# Altium footprint library PcbLib1.PcbLib: 44 footprints (part 2 of 3)
Each footprint in its own frame and in the unit in brackets; x right, y up, seen from the top. Pads: shape width x height; smd on the part's side, far side on the other; paste and mask are expansions set on the pad; w line width, h text height; cw(c..) or ccw(c..) is an arc to the next point about the centre after c.
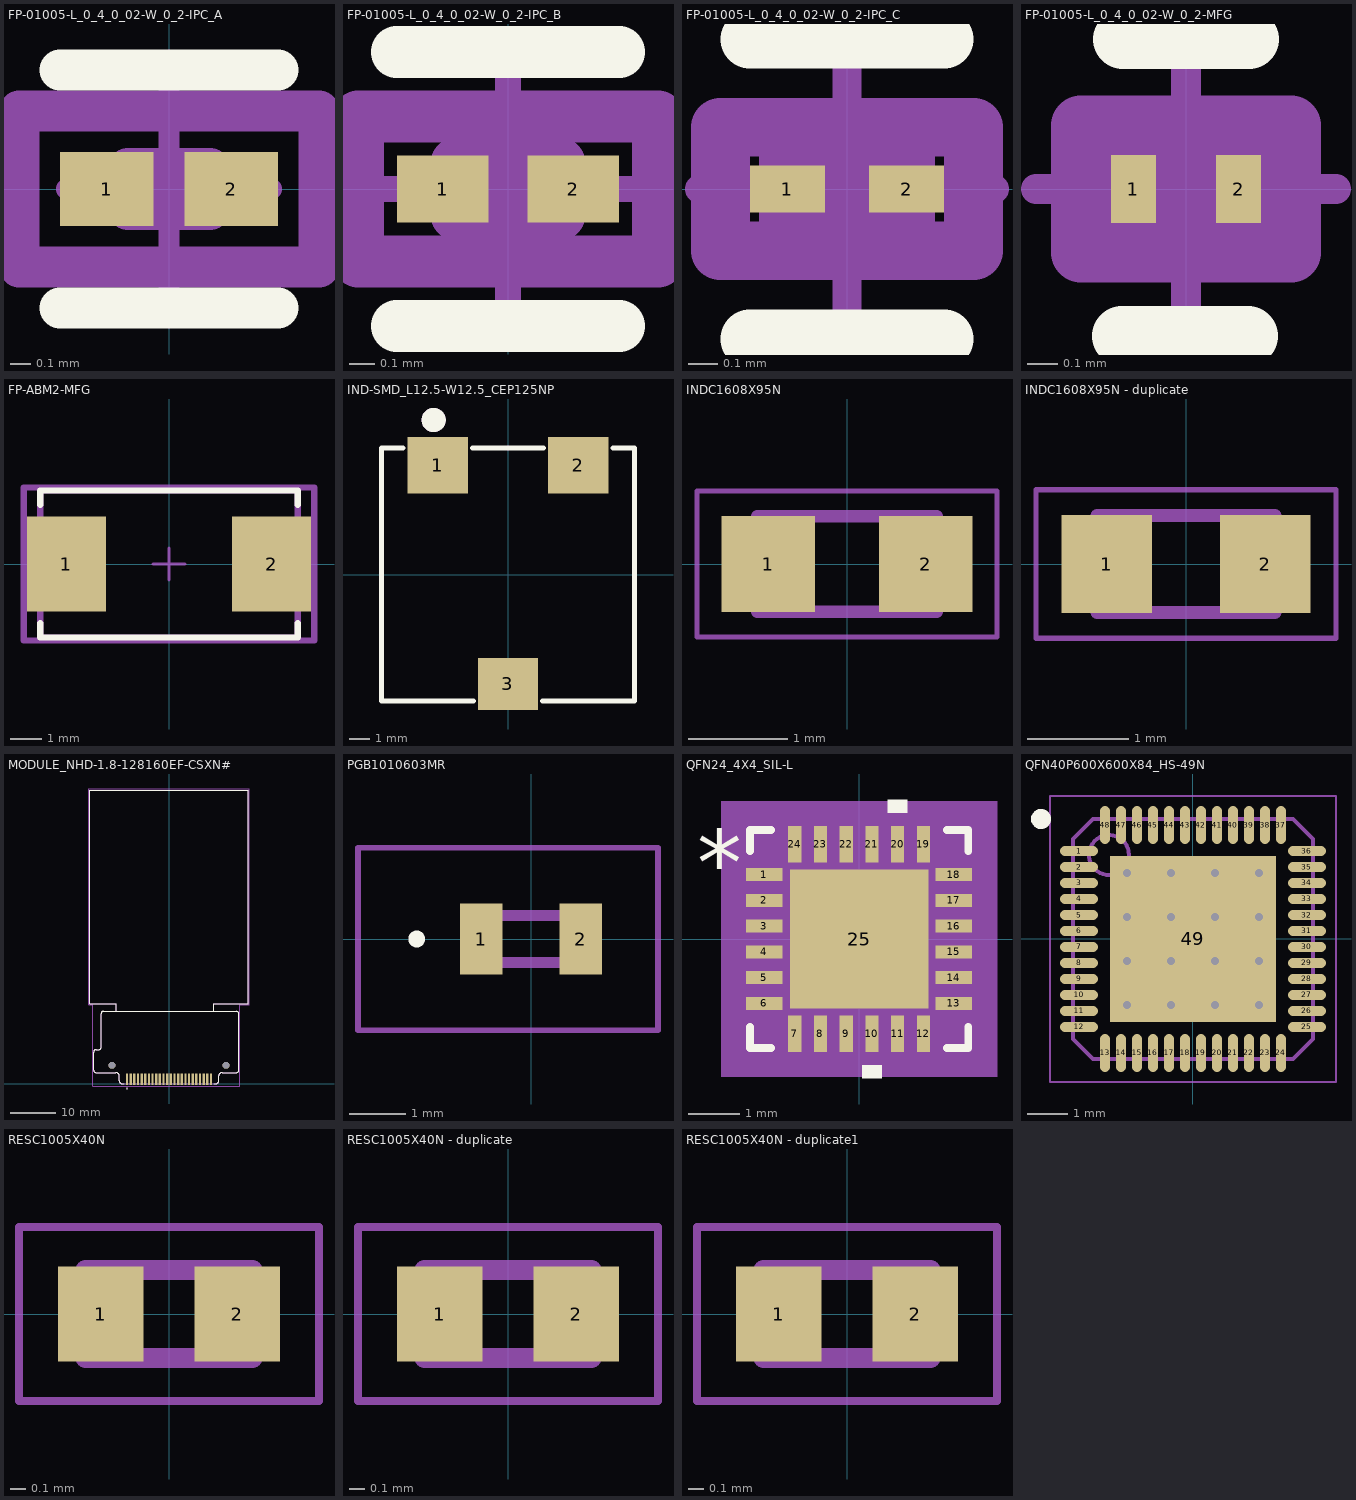
[diagram p1: the footprints below, top view; thin cyan lines are the x and y axes]

## FP-01005-L_0_4_0_02-W_0_2-IPC_A [mm]
pads (2):
  rect 0.456x0.361 smd paste+0 mask+0: 1(-0.303,0) 2(0.303,0)
Top Overlay:
  lines w0.2: -0.531,-0.581 0.531,-0.581 ; -0.531,0.581 0.531,0.581
Top 3D Body:
  lines w0.2: -0.2,-0.1 0.2,-0.1 0.2,0.1 -0.2,0.1 -0.2,-0.1
Top Courtyard:
  lines w0.2: -0.731,-0.381 0.731,-0.381 0.731,0.381 -0.731,0.381 -0.731,-0.381
Top Assembly:
  lines w0.2: -0.731,-0.381 0.731,-0.381 0.731,0.381 -0.731,0.381 -0.731,-0.381
  text ".Designator" at 0,0.188 h1
Top Component Center:
  lines w0.1: -0.5,0 0.5,0 ; 0,-0.5 0,0.5
3D body "Cap_Taiyo_Yuden_LMK042BJ222MC-W_eec.STEP": height 0.25, standoff 0, extent -0.731,-0.381 0.731,0.381

## FP-01005-L_0_4_0_02-W_0_2-IPC_B [mil]
pads (2):
  rect 14x10.29 smd paste+0 mask+0: 1(-9.95,0) 2(9.95,0)
Top Overlay:
  lines w7.87: -16.95,-20.89 16.95,-20.89 ; -16.95,20.89 16.95,20.89
Top 3D Body:
  lines w7.87: -7.87,-3.94 7.87,-3.94 7.87,3.94 -7.87,3.94 -7.87,-3.94
Top Courtyard:
  lines w7.87: -22.86,-11.05 22.86,-11.05 22.86,11.05 -22.86,11.05 -22.86,-11.05
Top Assembly:
  lines w7.87: -22.86,-11.05 22.86,-11.05 22.86,11.05 -22.86,11.05 -22.86,-11.05
  text ".Designator" at 0,7.41 h39.37
Top Component Center:
  lines w3.94: -19.68,0 19.68,0 ; 0,-19.68 0,19.68
3D body "Cap_Taiyo_Yuden_LMK042BJ222MC-W_eec.STEP": height 10, standoff 0, extent -22.86,-11.05 22.86,11.05

## FP-01005-L_0_4_0_02-W_0_2-IPC_C [mm]
pads (2):
  rect 0.256x0.161 smd paste+0 mask+0: 1(-0.203,0) 2(0.203,0)
Top Overlay:
  lines w0.2: -0.331,-0.51 0.331,-0.51 ; -0.331,0.51 0.331,0.51
Top 3D Body:
  lines w0.2: -0.2,-0.1 0.2,-0.1 0.2,0.1 -0.2,0.1 -0.2,-0.1
Top Courtyard:
  lines w0.2: -0.431,-0.21 0.431,-0.21 0.431,0.21 -0.431,0.21 -0.431,-0.21
Top Assembly:
  lines w0.2: -0.431,-0.21 0.431,-0.21 0.431,0.21 -0.431,0.21 -0.431,-0.21
  text ".Designator" at 0,0.188 h1
Top Component Center:
  lines w0.1: -0.5,0 0.5,0 ; 0,-0.5 0,0.5
3D body "Cap_Taiyo_Yuden_LMK042BJ222MC-W_eec.STEP": height 0.25, standoff 0, extent -0.431,-0.21 0.431,0.21

## FP-01005-L_0_4_0_02-W_0_2-MFG [mm]
pads (2):
  rect 0.15x0.225 smd paste+0 mask+0: 1(-0.175,0) 2(0.175,0)
Top Overlay:
  lines w0.2: -0.214,-0.49 0.206,-0.49 ; -0.21,0.5 0.21,0.5
Top 3D Body:
  lines w0.2: -0.21,-0.11 0.21,-0.11 0.21,0.11 -0.21,0.11 -0.21,-0.11
Top Courtyard:
  lines w0.2: -0.35,-0.212 0.35,-0.212 0.35,0.212 -0.35,0.212 -0.35,-0.212
Top Assembly:
  lines w0.2: -0.35,-0.212 0.35,-0.212 0.35,0.212 -0.35,0.212 -0.35,-0.212
  text ".Designator" at 0,0.188 h1
Top Component Center:
  lines w0.1: -0.5,0 0.5,0 ; 0,-0.5 0,0.5
3D body "Cap_Taiyo_Yuden_LMK042BJ222MC-W_eec.STEP": height 0.25, standoff 0, extent -0.35,-0.212 0.35,0.212

## FP-ABM2-MFG [mm]
pads (2):
  rect 2.5x3 smd paste+0 mask+0: 1(-3.25,0) 2(3.25,0)
Top Overlay:
  lines w0.2: -4.075,-1.875 -4.075,-2.325 4.075,-2.325 4.075,-1.875 ; -4.075,1.875 -4.075,2.325 4.075,2.325 4.075,1.875
Top 3D Body:
  lines w0.2: -4.075,-2.325 -4.075,2.325 4.075,2.325 4.075,-2.325 -4.075,-2.325
Top Courtyard:
  lines w0.2: -4.6,-2.425 -4.6,2.425 4.6,2.425 4.6,-2.425 -4.6,-2.425
Top Assembly:
  lines w0.2: -4.6,-2.425 -4.6,2.425 4.6,2.425 4.6,-2.425 -4.6,-2.425
  text ".Designator" at 0,0.188 h1
Top Component Center:
  lines w0.1: -0.5,0 0.5,0 ; 0,-0.5 0,0.5
3D body "Crys_Abracon_ABM2-30_000MHZ-D4YF-T_eec.STEP": height 0.25, standoff 0, extent -4.6,-2.425 4.6,2.425

## IND-SMD_L12.5-W12.5_CEP125NP [mm]
pads (3):
  rect 3x2.8 smd: 1(-3.5,5.45) 2(3.5,5.45)
  rect 3x2.6 smd: 3(0,-5.45)
Top Overlay:
  circle w0.6: c-3.7,7.7 r0.3
  lines w0.254: -5.231,6.3 -6.3,6.3 -6.3,-6.3 -1.731,-6.3 ; -1.769,6.3 1.769,6.3 ; 1.731,-6.3 6.3,-6.3 6.3,6.3 5.231,6.3
Mechanical 15:
  circle w0.6: c-3.7,7.7 r0.3

## INDC1608X95N [mm]
pads (2):
  rect 0.94x0.97 smd: 1(-0.79,0) 2(0.79,0)
Mechanical 13:
  lines w0.127: -0.9,-0.48 0.9,-0.48 0.9,0.48 -0.9,0.48 -0.9,-0.48
Mechanical 15:
  lines w0.05: -1.508,-0.735 1.508,-0.735 1.508,0.735 -1.508,0.735 -1.508,-0.735
3D body "step_temp.STEP": height 0.78, standoff -0.02, extent -0.8,-0.4 0.8,0.4

## INDC1608X95N - duplicate [mm]
pads (2):
  rect 0.9x0.97 smd: 1(-0.785,0) 2(0.785,0)
Mechanical 13:
  lines w0.127: -0.88,-0.48 0.88,-0.48 0.88,0.48 -0.88,0.48 -0.88,-0.48
Mechanical 15:
  lines w0.05: -1.485,-0.735 1.485,-0.735 1.485,0.735 -1.485,0.735 -1.485,-0.735
3D body "step_temp.STEP": height 0.81, standoff 0.01, extent -0.8,-0.4 0.8,0.4

## MODULE_NHD-1.8-128160EF-CSXN# [mm]
pads (26):
  rect 0.5x2.5 smd: 1(-9.2,1) 2(-8.4,1) 3(-7.6,1) 4(-6.8,1) 5(-6,1) 6(-5.2,1) 7(-4.4,1) 8(-3.6,1) 9(-2.8,1) 10(-2,1) 11(-1.2,1) 12(-0.4,1) 13(0.4,1) 14(1.2,1) 15(2,1) 16(2.8,1) 17(3.6,1) 18(4.4,1) 19(5.2,1) 20(6,1) 21(6.8,1) 22(7.6,1) 23(8.4,1) 24(9.2,1)
  round 1.5 hole 1.5 unplated: ""(-12.5,4.1) ""(12.5,4.1)
Top Overlay:
  circle w0.2: c-9.2,-1 r0.1
  lines w0.127: -11.55,15.9 -11.55,17.63 -17.35,17.63 -17.35,64.38 17.35,64.38 17.35,17.63 9.85,17.63 9.85,15.9 ; -9.77,0 -10.15,0 cw(c-10.15,0.75) -10.9,0.75 -10.9,1.75 ccw(c-11.65,1.75) -11.65,2.5 -15.99,2.5 cw(c-15.99,3) -16.49,3 -16.49,7 cw(c-15.99,7) -15.99,7.5 -15.39,7.5 ccw(c-15.39,8) -14.89,8 -14.89,15.4 cw(c-14.39,15.4) -14.39,15.9 14.8,15.9 cw(c14.8,15.4) 15.3,15.4 15.3,3 cw(c14.8,3) 14.8,2.5 11.65,2.5 ccw(c11.65,1.75) 10.9,1.75 10.9,0.75 cw(c10.15,0.75) 10.15,0 9.77,0
Mechanical 13:
  circle w0.2: c-9.2,-1 r0.1
  lines w0.127: -11.55,15.9 -14.39,15.9 ccw(c-14.39,15.4) -14.89,15.4 -14.89,8 cw(c-15.39,8) -15.39,7.5 -15.99,7.5 ccw(c-15.99,7) -16.49,7 -16.49,3 ccw(c-15.99,3) -15.99,2.5 -11.65,2.5 cw(c-11.65,1.75) -10.9,1.75 -10.9,0.75 ccw(c-10.15,0.75) -10.15,0 10.15,0 ccw(c10.15,0.75) 10.9,0.75 10.9,1.75 cw(c11.65,1.75) 11.65,2.5 14.8,2.5 ccw(c14.8,3) 15.3,3 15.3,15.4 ccw(c14.8,15.4) 14.8,15.9 9.85,15.9 ; -11.55,15.9 9.85,15.9 ; -11.55,15.9 -11.55,17.63 -17.35,17.63 -17.35,64.38 17.35,64.38 17.35,17.63 9.85,17.63 9.85,15.9
Mechanical 15:
  lines w0.05: -17.6,17.38 -16.74,17.38 -16.74,-0.5 15.55,-0.5 15.55,17.38 17.6,17.38 17.6,64.63 -17.6,64.63 -17.6,17.38
3D body "NHD-1.8-128160EF-CSXN#-F.STEP": height 2.4, standoff 0, extent -17.477,-0.238 17.223,64.142

## PCBComponent_1 [mm]

## PGB1010603MR [mm]
pads (2):
  rect 0.76x1.27 smd: 1(-0.89,0) 2(0.89,0)
Top Overlay:
  lines w0.2: -2.1,0 ccw(c-2.05,0) -2,0 ; -2.1,0 cw(c-2.05,0) -2,0 ; -2.1,0 ccw(c-2.05,0) -2,0
Mechanical 15:
  lines w0.2: -0.83,-0.42 0.83,-0.42 0.83,0.42 -0.83,0.42 -0.83,-0.42
Mechanical 20:
  lines w0.1: -3.1,-1.635 2.27,-1.635 2.27,1.635 -3.1,1.635 -3.1,-1.635
3D body "PGB1010603NR.stp": height 0.36, standoff 0, extent -0.83,-0.42 0.83,0.42

## QFN24_4X4_SIL-L [mil]
pads (25):
  rect 28x10 smd paste+0 mask+0: 1(-72.5,49.21) 2(-72.5,29.53) 3(-72.5,9.84) 4(-72.5,-9.84) 5(-72.5,-29.53) 6(-72.5,-49.21) 13(72.5,-49.21) 14(72.5,-29.53) 15(72.5,-9.84) 16(72.5,9.84) 17(72.5,29.53) 18(72.5,49.21)
  rect 10x28 smd paste+0 mask+0: 7(-49.21,-72.5) 8(-29.53,-72.5) 9(-9.84,-72.5) 10(9.84,-72.5) 11(29.53,-72.5) 12(49.21,-72.5) 19(49.21,72.5) 20(29.53,72.5) 21(9.84,72.5) 22(-9.84,72.5) 23(-29.53,72.5) 24(-49.21,72.5)
  rect 106x106 smd paste-52.5 mask+0: 25(0,0)
Top Overlay:
  region: 37.03,96.5 22.03,96.5 22.03,106.5 37.03,106.5
  region: 17.34,-96.5 2.34,-96.5 2.34,-106.5 17.34,-106.5
  lines w6: -83.5,-67.31 -83.5,-83.5 -67.31,-83.5 ; -83.5,67.31 -83.5,83.5 -67.31,83.5 ; 67.31,-83.5 83.5,-83.5 83.5,-67.31 ; 67.31,83.5 83.5,83.5 83.5,67.31
  text "*" at -124,34.06 h50
Top Paste:
  region: 49.06,-3.94 3.94,-3.94 3.94,-49.06 49.06,-49.06
  region: 49.06,49.06 3.94,49.06 3.94,3.94 49.06,3.94
  region: -3.94,-3.94 -49.06,-3.94 -49.06,-49.06 -3.94,-49.06
  region: -3.94,49.06 -49.06,49.06 -49.06,3.94 -3.94,3.94
Top Assembly:
  region: 105.5,-105.5 -105.5,-105.5 -105.5,105.5 105.5,105.5
Mechanical 13:
  lines w1: -78.5,28.5 -28.5,78.5 ; -78.5,-78.5 -78.5,78.5 78.5,78.5 78.5,-78.5 -78.5,-78.5 ; -78.5,-55.21 -78.5,-43.21 -78.5,-55.21 ; -78.5,-35.53 -78.5,-23.53 -78.5,-35.53 ; -78.5,-15.84 -78.5,-3.84 -78.5,-15.84 ; -78.5,3.84 -78.5,15.84 -78.5,3.84 ; -78.5,23.53 -78.5,35.53 -78.5,23.53 ; -78.5,43.21 -78.5,55.21 -78.5,43.21 ; -55.21,-78.5 -43.21,-78.5 -55.21,-78.5 ; -55.21,78.5 -43.21,78.5 -55.21,78.5 ; -35.53,-78.5 -23.53,-78.5 -35.53,-78.5 ; -35.53,78.5 -23.53,78.5 -35.53,78.5 ; -15.84,-78.5 -3.84,-78.5 -15.84,-78.5 ; -15.84,78.5 -3.84,78.5 -15.84,78.5 ; 3.84,-78.5 15.84,-78.5 3.84,-78.5 ; 3.84,78.5 15.84,78.5 3.84,78.5 ; 23.53,-78.5 35.53,-78.5 23.53,-78.5 ; 23.53,78.5 35.53,78.5 23.53,78.5 ; 43.21,-78.5 55.21,-78.5 43.21,-78.5 ; 43.21,78.5 55.21,78.5 43.21,78.5 ; 78.5,-55.21 78.5,-43.21 78.5,-55.21 ; 78.5,-35.53 78.5,-23.53 78.5,-35.53 ; 78.5,-15.84 78.5,-3.84 78.5,-15.84 ; 78.5,3.84 78.5,15.84 78.5,3.84 ; 78.5,23.53 78.5,35.53 78.5,23.53 ; 78.5,43.21 78.5,55.21 78.5,43.21
  text "*" at -71,34.06 h50
Mechanical 15:
  region: -58.21,-82.5 -82.5,-82.5 -82.5,-58.21 -90.5,-58.21 -90.5,58.21 -82.5,58.21 -82.5,82.5 -58.21,82.5 -58.21,90.5 58.21,90.5 58.21,82.5 82.5,82.5 82.5,58.21 90.5,58.21 90.5,-58.21 82.5,-58.21 82.5,-82.5 58.21,-82.5 58.21,-90.5 -58.21,-90.5
  lines w6: -90.5,-58.21 -90.5,58.21 -82.5,58.21 -82.5,82.5 -58.21,82.5 -58.21,90.5 58.21,90.5 58.21,82.5 82.5,82.5 82.5,58.21 90.5,58.21 90.5,-58.21 82.5,-58.21 82.5,-82.5 58.21,-82.5 58.21,-90.5 -58.21,-90.5 -58.21,-82.5 -82.5,-82.5 -82.5,-58.21 -90.5,-58.21
3D body "QFN24_4X4_SIL.step": height 32.09, standoff 0, extent -78.5,-78.5 78.5,78.5

## QFN40P600X600X84_HS-49N [mm] "QFN, 48-Leads, Body 6,00x6,00mm, Pitch 0,40mm, Thermal Pad 4,14x4,14mm, IPC Medium Density"
height 0.84
pads (49):
  oval 0.95x0.25 smd: 1(-2.85,2.2) 2(-2.85,1.8) 3(-2.85,1.4) 4(-2.85,1) 5(-2.85,0.6) 6(-2.85,0.2) 7(-2.85,-0.2) 8(-2.85,-0.6) 9(-2.85,-1) 10(-2.85,-1.4) 11(-2.85,-1.8) 12(-2.85,-2.2) 25(2.85,-2.2) 26(2.85,-1.8) 27(2.85,-1.4) 28(2.85,-1) 29(2.85,-0.6) 30(2.85,-0.2) 31(2.85,0.2) 32(2.85,0.6) 33(2.85,1) 34(2.85,1.4) 35(2.85,1.8) 36(2.85,2.2)
  oval 0.25x0.95 smd: 13(-2.2,-2.85) 14(-1.8,-2.85) 15(-1.4,-2.85) 16(-1,-2.85) 17(-0.6,-2.85) 18(-0.2,-2.85) 19(0.2,-2.85) 20(0.6,-2.85) 21(1,-2.85) 22(1.4,-2.85) 23(1.8,-2.85) 24(2.2,-2.85) 37(2.2,2.85) 38(1.8,2.85) 39(1.4,2.85) 40(1,2.85) 41(0.6,2.85) 42(0.2,2.85) 43(-0.2,2.85) 44(-0.6,2.85) 45(-1,2.85) 46(-1.4,2.85) 47(-1.8,2.85) 48(-2.2,2.85)
  rect 4.14x4.14 smd: 49(0,0)
via 1.65,-1.65 diameter 0.5 hole 0.2
via 0.55,-1.65 diameter 0.5 hole 0.2
via -0.55,-1.65 diameter 0.5 hole 0.2
via -1.65,-1.65 diameter 0.5 hole 0.2
via 1.65,-0.55 diameter 0.5 hole 0.2
via 0.55,-0.55 diameter 0.5 hole 0.2
via -0.55,-0.55 diameter 0.5 hole 0.2
via -1.65,-0.55 diameter 0.5 hole 0.2
via 1.65,0.55 diameter 0.5 hole 0.2
via 0.55,0.55 diameter 0.5 hole 0.2
via -0.55,0.55 diameter 0.5 hole 0.2
via -1.65,0.55 diameter 0.5 hole 0.2
via 1.65,1.65 diameter 0.5 hole 0.2
via 0.55,1.65 diameter 0.5 hole 0.2
via -0.55,1.65 diameter 0.5 hole 0.2
via -1.65,1.65 diameter 0.5 hole 0.2
Top Overlay:
  circle w0.25: c-3.8,3 r0.125
Mechanical 13:
  circle w0.1: c-2.1,2.1 r0.5
  lines w0.1: -3,-2.5 -3,2.5 -2.5,3 2.5,3 3,2.5 3,-2.5 2.5,-3 -2.5,-3 -3,-2.5
Mechanical 15:
  lines w0.05: -3.575,-3.575 3.575,-3.575 3.575,3.575 -3.575,3.575 -3.575,-3.575
  lines w0.1: -0.5,0 0.5,0 ; 0,-0.5 0,0.5
3D body "QFN40P600X600X84_HS-49N.step": height 0.84, standoff 0, extent -3.01,-3.01 3.01,3.01

## RESC1005X40N [mm]
pads (2):
  rect 0.54x0.6 smd: 1(-0.432,0) 2(0.432,0)
Mechanical 13:
  lines w0.127: -0.53,-0.28 0.53,-0.28 0.53,0.28 -0.53,0.28 -0.53,-0.28
Mechanical 15:
  lines w0.05: -0.95,-0.55 0.95,-0.55 0.95,0.55 -0.95,0.55 -0.95,-0.55
3D body "RC0402JR-071K8L.STEP": height 0.4, standoff 0, extent -0.5,-0.25 0.5,0.25

## RESC1005X40N - duplicate [mm]
pads (2):
  rect 0.54x0.6 smd: 1(-0.432,0) 2(0.432,0)
Mechanical 13:
  lines w0.127: -0.53,-0.28 -0.53,0.28 0.53,0.28 0.53,-0.28 -0.53,-0.28
Mechanical 15:
  lines w0.05: -0.95,-0.55 -0.95,0.55 0.95,0.55 0.95,-0.55 -0.95,-0.55

## RESC1005X40N - duplicate1 [mm]
pads (2):
  rect 0.54x0.6 smd: 1(-0.432,0) 2(0.432,0)
Mechanical 13:
  lines w0.127: -0.53,-0.28 -0.53,0.28 0.53,0.28 0.53,-0.28 -0.53,-0.28
Mechanical 15:
  lines w0.05: -0.95,-0.55 -0.95,0.55 0.95,0.55 0.95,-0.55 -0.95,-0.55